# EAGLE library part 105314-2112 (library 105314-2112 nanofit hdr)
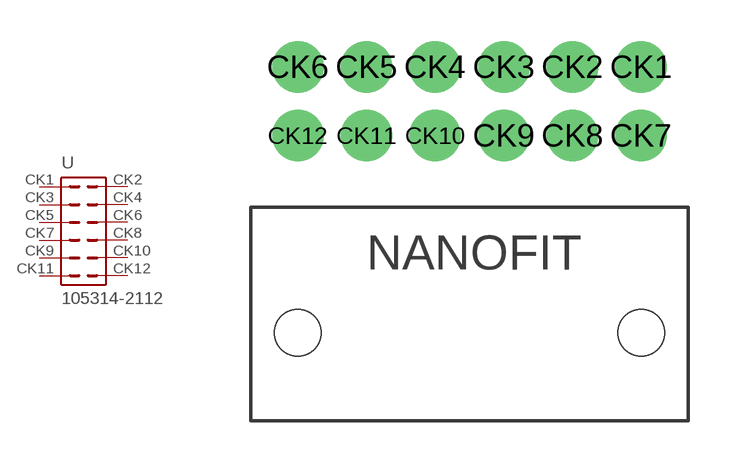
[diagram p0: symbol with the pads of 105314-2112; footprint 105314-2112]

Designator prefix -

## 105314-2112  [105314-2112]
CK1  CK1  pas
CK2  CK2  pas
CK3  CK3  pas
CK4  CK4  pas
CK5  CK5  pas
CK6  CK6  pas
CK7  CK7  pas
CK8  CK8  pas
CK9  CK9  pas
CK10  CK10  pas
CK11  CK11  pas
CK12  CK12  pas

## Footprint 105314-2112 (pad centres in mm)
drill 1.25: CK1 12.5,2.5; CK2 10,2.5; CK3 7.5,2.5; CK4 5,2.5; CK5 2.5,2.5; CK6 0,2.5; CK7 12.5,0; CK8 10,0; CK9 7.5,0; CK10 5,0; CK11 2.5,0; CK12 0,0
hole 1.7 at 0,-7.18
hole 1.7 at 12.5,-7.18